# EAGLE library part LORA_E32 (library 111_LoRa_e32)
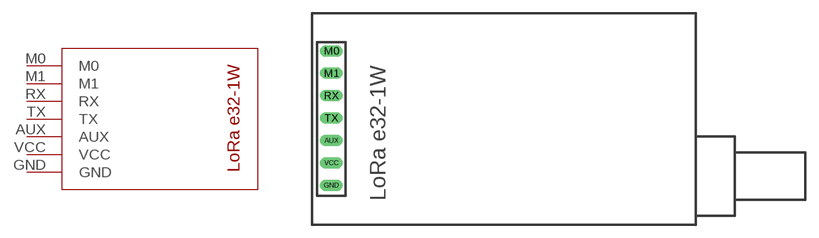
[diagram p0: symbol with the pads of LORA_E32; footprint LORA_E32]

Designator prefix -

## LORA_E32  [LORA_E32]
AUX  AUX
GND  GND
M0  M0
M1  M1
RX  RX
TX  TX
VCC  VCC

## Footprint LORA_E32 (pad centres in mm)
drill 0.8 long: AUX 1.69,9.56; GND 1.69,4.48; M0 1.69,19.72; M1 1.69,17.18; RX 1.69,14.64; TX 1.69,12.1; VCC 1.69,7.02